# Altium schematic symbol library SG_SCH_Sensors.SchLib: 32 symbols
Pins are listed as number, name and electrical type; pins without a type are passive.

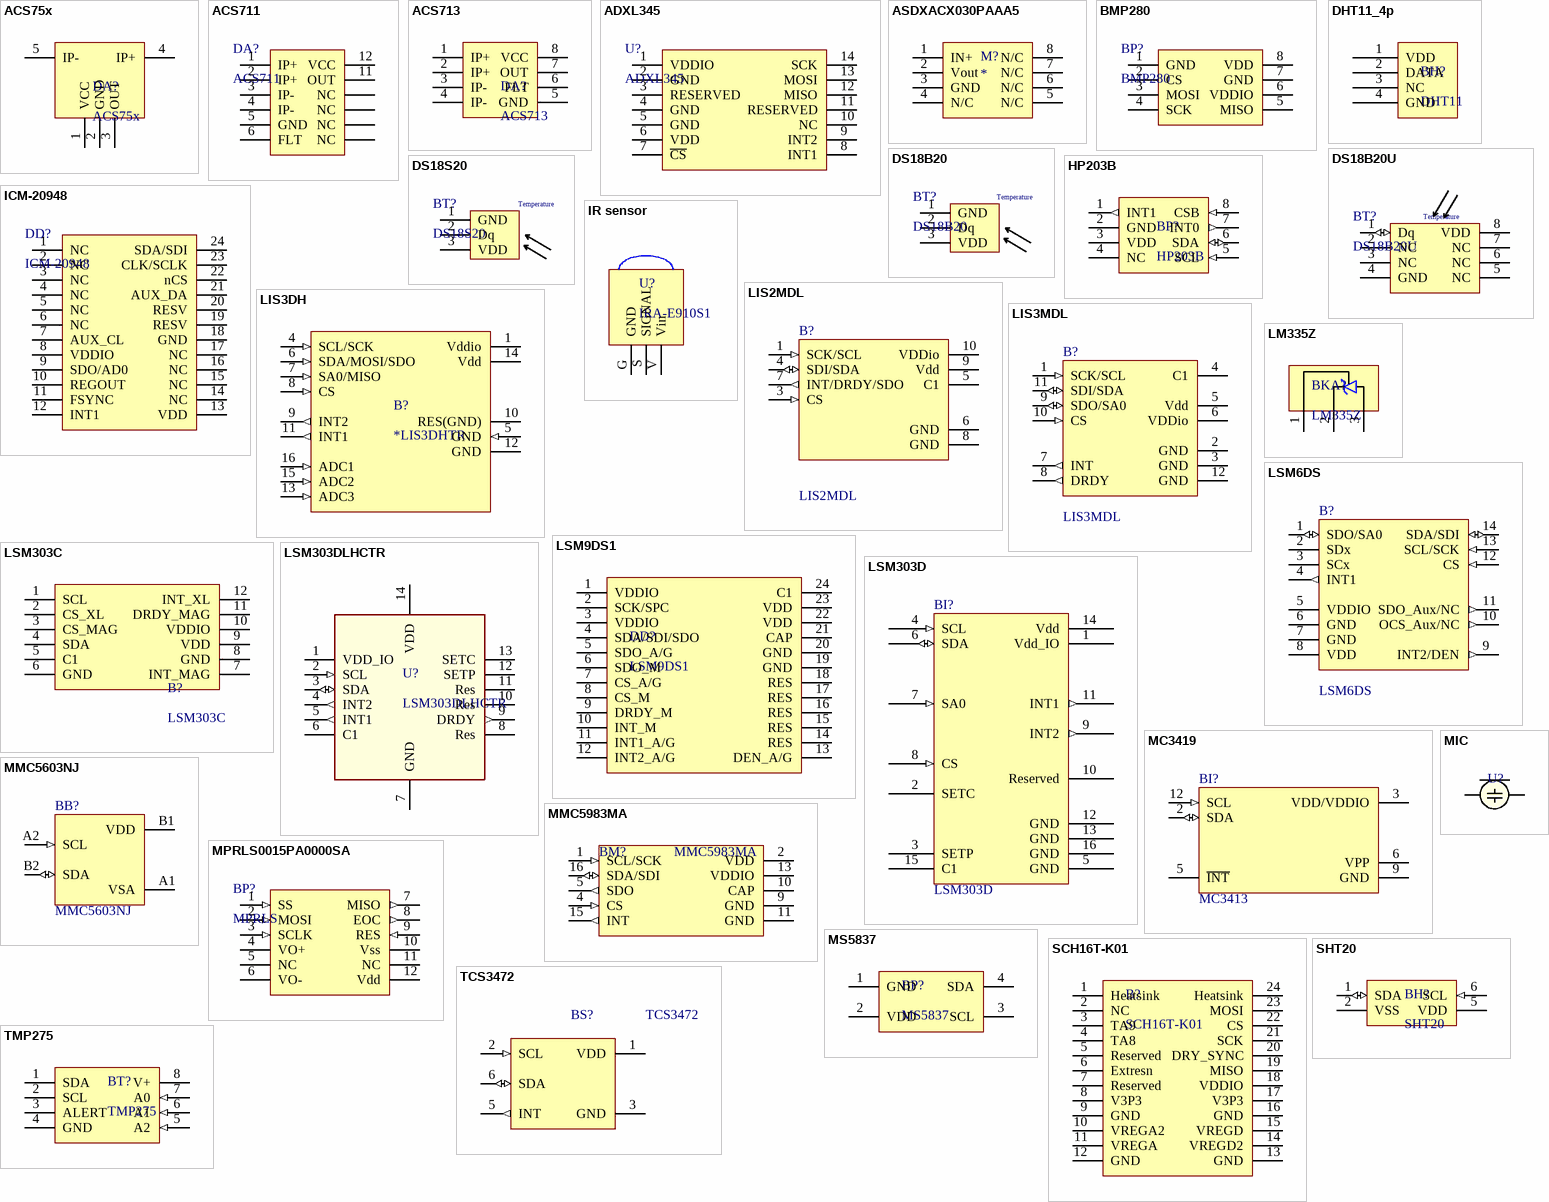
[diagram p0: symbols ACS75x to TMP275]

## ACS75x
designator DA?
OriginalSource: AltTab; Order: *
pins: 1 VCC, 2 GND, 3 OUT, 4 IP+, 5 IP-

## ACS711
designator DA?
15.5A Hall-based isolated current sensor; DefaultOrder: ACS711KEXLT-15AB-T*; OriginalSource: AltTab
footprint QFN-10N_ACS711KEX (QFN, 16-Leads, Body 3,00x3,00mm, Pitch 0,50mm, IPC Medium Density)
pins: 1 IP+, 2 IP+, 3 IP-, 4 IP-, 5 GND, 6 FLT, 7 NC (power), 8 NC (power), 9 NC (power), 10 NC (power), 11 OUT, 12 VCC

## ACS713
designator DA?
20A or 30A Hall-based isolated current sensor; OriginalSource: AltTab; Order: *
footprint SO-8 (Small Outline; 8 Leads; Body Width 3.9 mm; Pitch 1.27 mm)
pins: 1 IP+, 2 IP+, 3 IP-, 4 IP-, 5 GND, 6 FLT, 7 OUT, 8 VCC

## ADXL345
designator U?
акселерометр; OriginalSource: AltTab; DefaultOrder: ADXL345
pins: 1 VDDIO, 2 GND, 3 RESERVED, 4 GND, 5 GND, 6 VDD, 7 ~{CS}, 8 INT1, 9 INT2, 10 NC, 11 RESERVED, 12 MISO, 13 MOSI, 14 SCK

## ASDXACX030PAAA5
designator M?
barometr; OriginalSource: AltTab
footprint ASDXACX030PAAA5
pins: 1 IN+, 2 Vout, 3 GND, 4 N/C, 5 N/C, 6 N/C, 7 N/C, 8 N/C

## BMP280
designator BP?
барометр; OriginalSource: AltTab; DefaultOrder: BMP280
pins: 1 GND, 2 CS, 3 MOSI, 4 SCK, 5 MISO, 6 VDDIO, 7 GND, 8 VDD

## DHT11_4p
designator BH?, comment DHT11
Датчик влажности(отдельный сенсор); OriginalSource: AltSobor; Order: *; DefaultOrder: DHT11
pins: 1 VDD, 2 DATA, 3 NC, 4 GND

## DS18B20
designator BT?
temperature sensor; DefaultOrder: DS18S20; OriginalSource: AltTab; Order: *
footprint TO-92 (Footprint not found)
pins: 1 GND, 2 Dq, 3 VDD
text: Temperature

## DS18B20U
designator BT?
Temperature sensor; DefaultOrder: DS18B20U*; OriginalSource: AltTab; HelpURL: https://datasheets.maximintegrated.com/en/ds/2812.pdf
footprint USOP-8L (Footprint not found)
footprint USOP-8N (Footprint not found)
pins: 1 Dq (io), 2 NC, 3 NC, 4 GND (power), 5 NC, 6 NC, 7 NC, 8 VDD (power)
text: Temperature

## DS18S20
designator BT?
temperature sensor; OriginalSource: AltTab; DefaultOrder: DS18S20; Order: *
footprint TO-92 (Footprint not found)
pins: 1 GND, 2 Dq, 3 VDD
text: Temperature

## HP203B
designator BP?
OriginalSource: MiniSat; Order: HP203B
footprint LGA-8_HP203B (HP203B)
pins: 1 INT1 (out), 2 GND (power), 3 VDD (power), 4 NC, 5 SCL (in), 6 SDA (io), 7 INT0 (out), 8 CSB (in)

## ICM-20948
designator DD?
ax/gyro; OriginalSource: AltTab; Order: *
footprint QFN-24 (QFN, 24-Leads, Body 3,00x3,00mm, Pitch 0,40mm, Thermal Pad 1,70x1,54mm, IPC Medium Density)
pins: 1 NC, 2 NC, 3 NC, 4 NC, 5 NC, 6 NC, 7 AUX_CL, 8 VDDIO, 9 SDO/AD0, 10 REGOUT, 11 FSYNC, 12 INT1, 13 VDD, 14 NC, 15 NC, 16 NC, 17 NC, 18 GND, 19 RESV, 20 RESV, 21 AUX_DA, 22 nCS, 23 CLK/SCLK, 24 SDA/SDI

## IR sensor
designator U?, comment IRA-E910S1
OriginalSource: AltTab; Order: *
footprint 3 PIN round
footprint IRA-E710 R
pins: G GND, S SIGNAL, V Vin

## LIS2MDL
designator B?
Digital output magnetic sensor; OriginalSource: AltTab; Order: *
footprint LGA-12_LIS2MDL (Footprint not found)
pins: 1 SCK/SCL (in), 3 CS (in), 4 SDI/SDA (io), 5 C1, 6 GND (power), 7 INT/DRDY/SDO (out), 8 GND (power), 9 Vdd (power), 10 VDDio (power)

## LIS3DH
designator B?, comment *LIS3DHTR
MEMS digital output motion sensor: / ultra-low-power high-performance 3-axis "nano" accelerometer; Order: *LIS3DHTR
footprint LGA-16(LIS3DH) (Footprint not found)
pins: 1 Vddio (power), 4 SCL/SCK (in), 5 GND (in), 6 SDA/MOSI/SDO (in), 7 SA0/MISO (in), 8 CS (in), 9 INT2 (out), 10 RES(GND) (power), 11 INT1 (out), 12 GND (power), 13 ADC3 (in), 14 Vdd (power), 15 ADC2 (in), 16 ADC1 (in)

## LIS3MDL
designator B?
Digital output magnetic sensor; OriginalSource: AltTab; Order: *
footprint LGA-12_LIS3MDL (Footprint not found)
pins: 1 SCK/SCL (in), 2 GND (power), 3 GND (power), 4 C1, 5 Vdd (power), 6 VDDio (power), 7 INT (out), 8 DRDY (out), 9 SDO/SA0 (io), 10 CS (in), 11 SDI/SDA (io), 12 GND (power)

## LM335Z
designator BKA?
Analog temperature sensor; OriginalSource: AltTab; DefaultOrder: LM335Z
pins: 1, 2, 3

## LSM6DS
designator B?
iNEMO inertial module: / always-on 3D accelerometer and 3D gyroscope; OriginalSource: AltTab; Order: *
footprint LGA-14_LSM6DS (Footprint not found)
pins: 1 SDO/SA0 (io), 2 SDx, 3 SCx, 4 INT1 (out), 5 VDDIO (power), 6 GND (power), 7 GND (power), 8 VDD (power), 9 INT2/DEN (out), 10 OCS_Aux/NC (out), 11 SDO_Aux/NC (out), 12 CS (in), 13 SCL/SCK (in), 14 SDA/SDI (io)

## LSM9DS1
designator DD?
9 DOF (accelerometer); OriginalSource: AltTab
footprint LGA-24M_LSM9DS1 (QFN, 24-Leads, Body 3,50x3,00mm, Pitch 0,43mm, IPC Low Density)
pins: 1 VDDIO, 2 SCK/SPC, 3 VDDIO, 4 SDA/SDI/SDO, 5 SDO_A/G, 6 SDO_M, 7 CS_A/G, 8 CS_M, 9 DRDY_M, 10 INT_M, 11 INT1_A/G, 12 INT2_A/G, 13 DEN_A/G, 14 RES, 15 RES, 16 RES, 17 RES, 18 RES, 19 GND, 20 GND, 21 CAP, 22 VDD, 23 VDD, 24 C1

## LSM303C
designator B?
магнитометр+акселерометр; DefaultOrder: LSM303C*; OriginalSource: AltTab
pins: 1 SCL, 2 CS_XL, 3 CS_MAG, 4 SDA, 5 C1, 6 GND, 7 INT_MAG, 8 GND, 9 VDD, 10 VDDIO, 11 DRDY_MAG, 12 INT_XL

## LSM303D
designator BI?
3 axis accelerometer + 3 axis magnetometer; Order: LSM303D
footprint QFN50P300X300X100_HS-17N (QFN, 16-Leads, Body 3,00x3,00mm, Pitch 0,50mm, Thermal Pad 1,25x2,25mm, IPC Medium Density)
pins: 1 Vdd_IO (power), 2 SETC, 3 SETP, 4 SCL (in), 5 GND (power), 6 SDA (io), 7 SA0 (in), 8 CS (in), 9 INT2 (out), 10 Reserved, 11 INT1 (out), 12 GND (power), 13 GND (power), 14 Vdd (power), 15 C1, 16 GND (power)

## LSM303DLHCTR
designator U?
LSM303DLHCTR 3-axes accelerometer and 3-axes magnetometer; OriginalSource: AltTab; Order: *
footprint LSM303DLHC/ADXL345
pins: 1 VDD_IO (power), 2 SCL (in), 3 SDA (io), 4 INT2 (out), 5 INT1 (out), 6 C1, 7 GND (power), 8 Res, 9 DRDY (out), 10 Res, 11 Res, 12 SETP, 13 SETC, 14 VDD (power)

## MC3419
designator BI?, comment MC3413
3-axis accelerometer; OriginalSource: MinisatMEMS; Order: *; HelpURL: https://ru.mouser.com/datasheet/2/821/MC3413_Preliminary_Datasheet_APS_048_0029v1_7-2025058.pdf; DefaultOrder: MC3413
footprint LGA-12
pins: 2 SDA (io), 3 VDD/VDDIO (power), 5 ~{INT} (oc), 6 VPP (power), 9 GND (power), 12 SCL (in)

## MIC
designator U?  (value not drawn)
Genric cap-mic; OriginalSource: AltTab; Order: *
footprint MIC
pins: 1, 2

## MMC5603NJ
designator BB?
3-axis magnetic sensor; ALternatePart: MMC5633NJL; OriginalSource: MinisatMEMS; HelpURL: https://ru.mouser.com/datasheet/2/821/Memsic_09102019_MMC5603NJ_Datasheet_Rev.B-1635324.pdf; Order: *; DefaultOrder: MMC5603NJ
footprint WLP-4
pins: A1 VSA (power), A2 SCL (in), B1 VDD (power), B2 SDA (io)

## MMC5983MA
designator BM?
±8 Gauss, High Performance 3-axis Magnetic Sensor; DefaultOrder: MMC5883MA; OriginalSource: OBC-7; Order: *; ComponentLink1Description: HelpURL; ComponentLink1URL: https://ru.mouser.com/datasheet/2/821/Memsic_09102019_MMC5983MA_Datasheet_Rev_A-1635338.pdf
footprint LGA-16 (MMC5883MA)
pins: 1 SCL/SCK (in), 2 VDD (power), 4 CS (in), 5 SDO (out), 9 GND (power), 10 CAP (power), 11 GND (power), 13 VDDIO (power), 15 INT (out), 16 SDA/SDI (io)

## MPRLS0015PA0000SA
designator BP?, comment MPRLS
baro; OriginalSource: AltTab; Order: *
footprint LGA-12_MPRLS0015PA0000SA (QFN, 12-Leads, Body 5,00x5,00mm, Pitch 1,27mm, IPC Low Density)
pins: 1 SS (in), 2 MOSI (in), 3 SCLK (in), 4 VO+, 5 NC, 6 VO-, 7 MISO (out), 8 EOC (out), 9 RES (in), 10 Vss (power), 11 NC, 12 Vdd (power)

## MS5837
designator BP?
DefaultOrder: MS5837-02BA; OriginalSource: AltTab; Order: *
footprint MS5837 (Pressure sensor)
pins: 1 GND, 2 VDD, 3 SCL, 4 SDA

## SCH16T-K01
designator B?
6-DOF XYZ-Axis gyroscope and XYZ-Axis / accelerometer with digital SPI interface; Order: *SCH16T-K01
footprint SCH16T (Package for SCH16T-K01)
pins: 1 Heatsink, 2 NC, 3 TA9, 4 TA8, 5 Reserved, 6 Extresn, 7 Reserved, 8 V3P3, 9 GND, 10 VREGA2, 11 VREGA, 12 GND, 13 GND, 14 VREGD2, 15 VREGD, 16 GND, 17 V3P3, 18 VDDIO, 19 MISO, 20 DRY_SYNC, 21 SCK, 22 CS, 23 MOSI, 24 Heatsink

## SHT20
designator BH?
Humidity sensor; OriginalSource: AltSobor; Order: *; DefaultOrder: SHT20
pins: 1 SDA (io), 2 VSS (power), 5 VDD (power), 6 SCL (in)

## TCS3472
designator BS?
TCS3472 light sensor I2C; Order: *TCS34725FN
footprint TCS3472 (COLOR LIGHT-TO-DIGITAL CONVERTER)
pins: 1 VDD (power), 2 SCL (in), 3 GND (power), 5 INT (out), 6 SDA (io)

## TMP275
designator BT?
±0.5°C Temperature Sensor With I2C; DefaultOrder: TMP275AIDGK; OriginalSource: AltTab; Order: *
footprint USOP-8 (TSOP, 8-Leads, Body 3,00x3,00mm, Pitch 0,65mm, IPC Medium Density)
pins: 1 SDA (oc), 2 SCL (oc), 3 ALERT (oc), 4 GND (power), 5 A2 (in), 6 A1 (in), 7 A0 (in), 8 V+ (power)